# Altium schematic symbol library FDG6322C.Schlib: 1 symbol
Pins are listed as number, name and electrical type; pins without a type are passive.

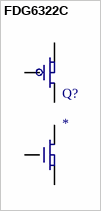
[diagram p0: symbol FDG6322C]

## FDG6322C
designator Q?
Complementary N and P FETs
pins: 1 SN, 2 GN, 3 DP, 4 SP, 5 GP, 6 DN